# Altium footprint library HIGH AMP IGBT DRIVER.PcbLib: 48 footprints (part 1 of 3)
Each footprint in its own frame and in the unit in brackets; x right, y up, seen from the top. Pads: shape width x height; smd on the part's side, far side on the other; paste and mask are expansions set on the pad; w line width, h text height; cw(c..) or ccw(c..) is an arc to the next point about the centre after c.
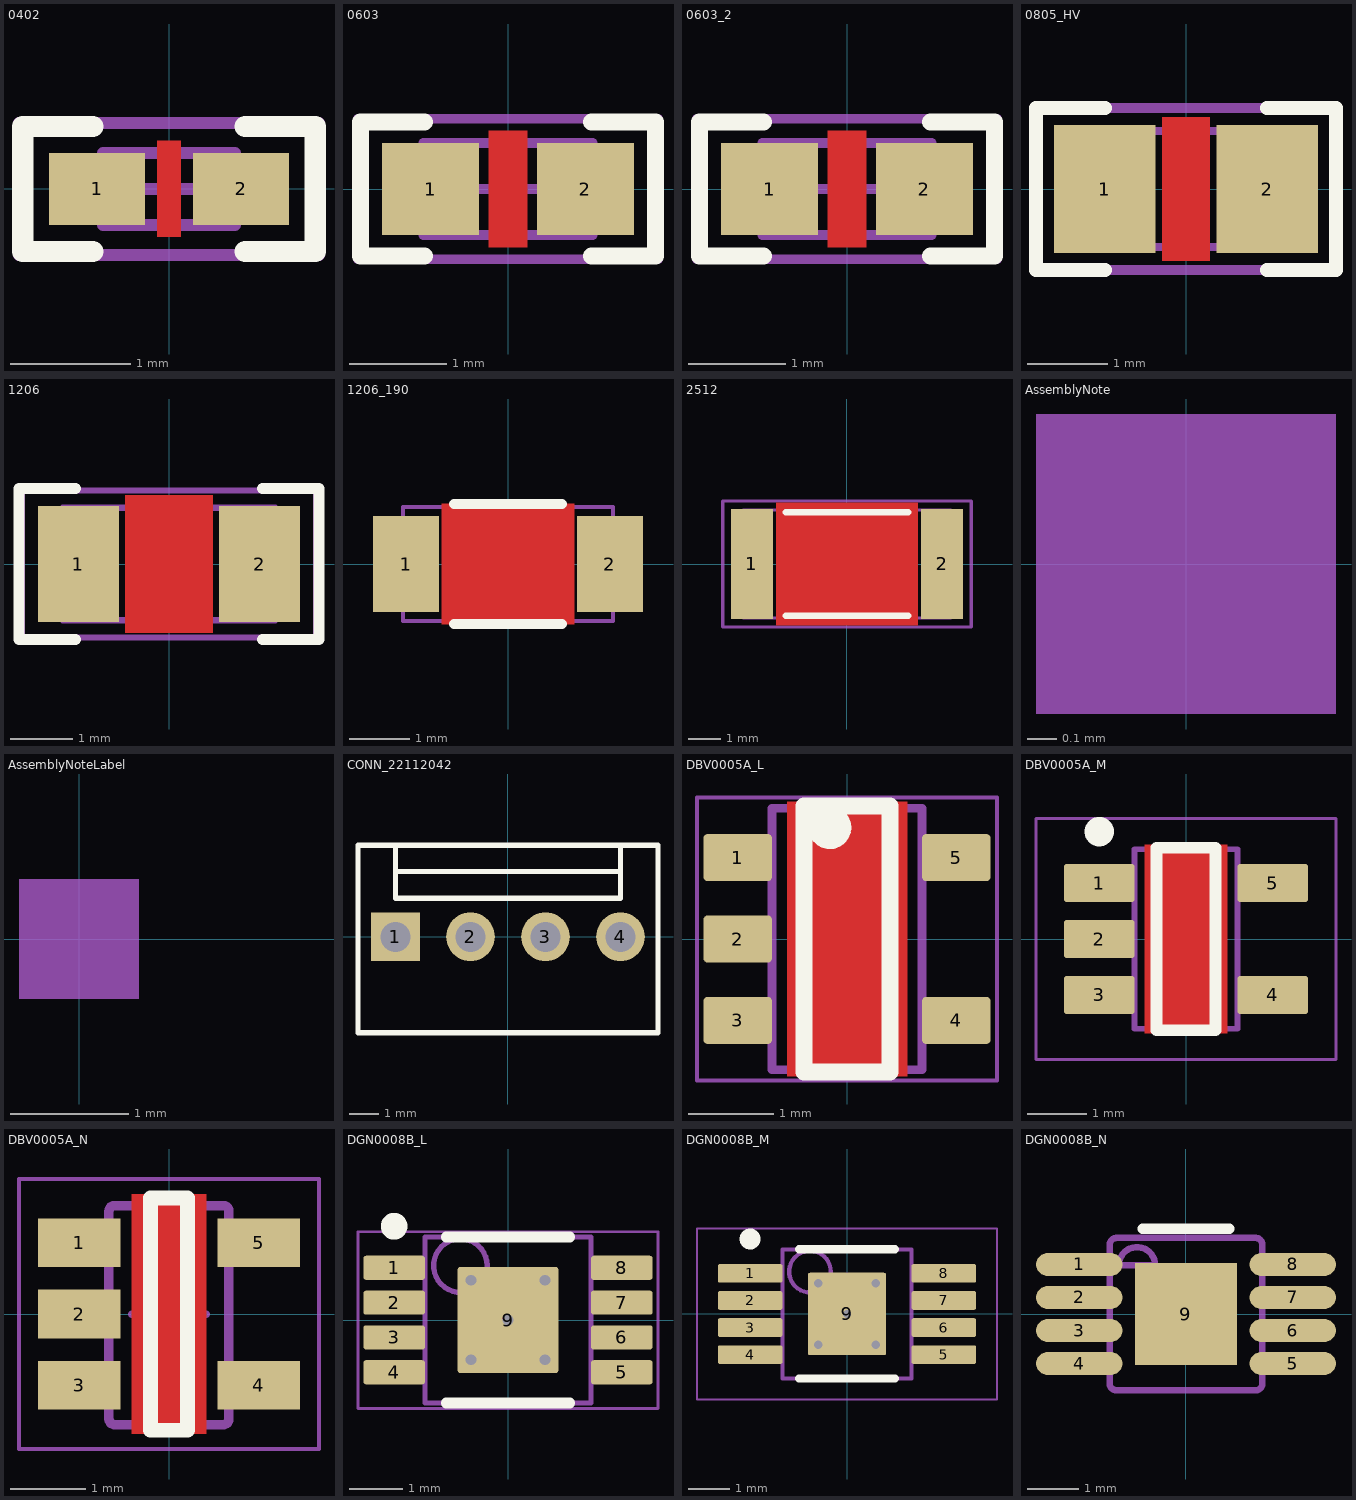
[diagram p0: the footprints below, top view; thin cyan lines are the x and y axes]

## 0402 [mm]
pads (2):
  rect 0.8x0.6 smd: 1(-0.6,0) 2(0.6,0)
Top Layer:
  pour cut-out: -0.1,0.4 0.1,0.4 0.1,-0.4 -0.1,-0.4
Top Overlay:
  lines w0.178: -0.635,-0.521 -1.219,-0.521 -1.219,0.521 -0.635,0.521 ; 0.635,-0.521 1.219,-0.521 1.219,0.521 0.635,0.521
Top 3D Body:
  lines w0.1: -0.35,-0.3 -0.35,0.3 ; 0.35,-0.3 0.35,0.3 ; -0.55,-0.3 0.55,-0.3 0.55,0.3 -0.55,0.3 -0.55,-0.3
Top Assembly:
  lines w0.1: -1.25,-0.55 -1.25,0.55 1.25,0.55 1.25,-0.55 -1.25,-0.55
  text ".Designator" at 0.94,0.381 h0.76
Top Courtyard:
  lines w0.1: -1.25,-0.55 1.25,-0.55 1.25,0.55 -1.25,0.55 -1.25,-0.55
Top Component Center:
  lines w0.1: -0.3,0 0.3,0 ; 0,-0.3 0,0.3
3D body: height 0.6, standoff 0, extent 0.351,-0.299 0.549,0.299
3D body: height 0.6, standoff 0, extent -0.349,-0.299 0.349,0.299
3D body: height 0.6, standoff 0, extent -0.549,-0.299 -0.351,0.299

## 0603 [mm]
pads (2):
  rect 1x0.95 smd: 1(-0.8,0) 2(0.8,0)
Top Layer:
  pour cut-out: -0.2,0.6 0.2,0.6 0.2,-0.6 -0.2,-0.6
Top Overlay:
  lines w0.178: -0.864,-0.691 -1.524,-0.691 -1.524,0.693 -0.864,0.693 ; 0.864,-0.691 1.524,-0.691 1.524,0.693 0.864,0.693
Top 3D Body:
  lines w0.1: -0.55,-0.475 -0.55,0.475 ; 0.55,-0.475 0.55,0.475 ; -0.875,-0.475 0.875,-0.475 0.875,0.475 -0.875,0.475 -0.875,-0.475
Top Assembly:
  lines w0.1: -1.55,-0.725 -1.55,0.725 1.55,0.725 1.55,-0.725 -1.55,-0.725
  text ".Designator" at -0.965,-0.406 h0.76
Top Courtyard:
  lines w0.1: -1.55,-0.725 1.55,-0.725 1.55,0.725 -1.55,0.725 -1.55,-0.725
Top Component Center:
  lines w0.1: -0.475,0 0.475,0 ; 0,-0.475 0,0.475
3D body: height 0.85, standoff 0, extent -0.874,-0.474 -0.551,0.474
3D body: height 0.85, standoff 0, extent -0.549,-0.474 0.549,0.474
3D body: height 0.85, standoff 0, extent 0.551,-0.474 0.874,0.474

## 0603_2 [mm]
pads (2):
  rect 1x0.95 smd: 1(-0.8,0) 2(0.8,0)
Top Layer:
  pour cut-out: -0.2,0.6 0.2,0.6 0.2,-0.6 -0.2,-0.6
Top Overlay:
  lines w0.178: -0.864,-0.691 -1.524,-0.691 -1.524,0.693 -0.864,0.693 ; 0.864,-0.691 1.524,-0.691 1.524,0.693 0.864,0.693
Top 3D Body:
  lines w0.1: -0.55,-0.475 -0.55,0.475 ; 0.55,-0.475 0.55,0.475 ; -0.875,-0.475 0.875,-0.475 0.875,0.475 -0.875,0.475 -0.875,-0.475
Top Assembly:
  lines w0.1: -1.55,-0.725 -1.55,0.725 1.55,0.725 1.55,-0.725 -1.55,-0.725
  text ".Designator" at -0.864,-0.406 h0.76
Top Courtyard:
  lines w0.1: -1.55,-0.725 1.55,-0.725 1.55,0.725 -1.55,0.725 -1.55,-0.725
Top Component Center:
  lines w0.1: -0.475,0 0.475,0 ; 0,-0.475 0,0.475
3D body: height 0.85, standoff 0, extent -0.874,-0.474 -0.551,0.474
3D body: height 0.85, standoff 0, extent -0.549,-0.474 0.549,0.474
3D body: height 0.85, standoff 0, extent 0.551,-0.474 0.874,0.474

## 0805_HV [mil]
pads (2):
  rect 50x63 smd: 1(-40,0) 2(40,0)
Top Layer:
  pour cut-out: -11.81,35.43 11.81,35.43 11.81,-35.43 -11.81,-35.43
Top Overlay:
  lines w7: -40,-40 -74,-40 -74,0 -74,40 -40,40 ; 40,-40 74,-40 74,0 74,40 40,40
Top 3D Body:
  lines w3.94: -25.59,-28.54 -25.59,28.54 ; 25.59,-28.54 25.59,28.54 ; -43.31,-28.54 43.31,-28.54 43.31,28.54 -43.31,28.54 -43.31,-28.54
  text ".Designator" at -48,-17 h30
Top Assembly:
  lines w5: -74,-40 -74,40 74,40 74,-40 -74,-40
3D body: height 43.31, standoff 0, extent -43.29,-28.52 -25.61,28.52
3D body: height 43.31, standoff 0, extent -25.57,-28.52 25.57,28.52
3D body: height 43.31, standoff 0, extent 25.61,-28.52 43.29,28.52

## 1206 [mm]
pads (2):
  rect 1.3x1.85 smd: 1(-1.45,0) 2(1.45,0)
Top Layer:
  pour cut-out: -0.7,1.1 0.7,1.1 0.7,-1.1 -0.7,-1.1
Top Overlay:
  lines w0.178: -1.5,-1.21 -2.4,-1.21 -2.4,1.21 -1.5,1.21 ; 1.5,-1.21 2.4,-1.21 2.4,1.21 1.5,1.21
Top 3D Body:
  lines w0.1: -1.2,-0.9 -1.2,0.9 ; 1.2,-0.9 1.2,0.9 ; -1.7,-0.9 -1.7,0.9 1.7,0.9 1.7,-0.9 -1.7,-0.9
Top Assembly:
  lines w0.1: -1.7,-0.9 -1.7,0.9 1.7,0.9 1.7,-0.9 -1.7,-0.9
  text ".Designator" at 1.118,0.508 h0.76
Top Courtyard:
  lines w0.1: -2.35,-1.175 -2.35,1.175 2.35,1.175 2.35,-1.175 -2.35,-1.175
Top Component Center:
  lines w0.1: -0.5,0 0.5,0 ; 0,-0.5 0,0.5
3D body: height 1.35, standoff 0, extent 1.201,-0.899 1.699,0.899
3D body: height 1.35, standoff 0, extent -1.199,-0.899 1.199,0.899
3D body: height 1.35, standoff 0, extent -1.699,-0.899 -1.201,0.899

## 1206_190 [mm]
pads (2):
  rect 1.1x1.6 smd: 1(-1.7,0) 2(1.7,0)
Top Layer:
  pour cut-out: -1.1,1 1.1,1 1.1,-1 -1.1,-1
Top Overlay:
  lines w0.17: -0.9,-1 0.9,-1 ; -0.9,1 0.9,1
Top Assembly:
  lines w0.07: -1.75,-0.95 -1.75,0.95 1.75,0.95 1.75,-0.95 -1.75,-0.95
  text ".Designator" at -1.346,-0.413 h0.76
3D body: height 1.9, standoff 0, extent 1.301,-0.949 1.749,0.949
3D body: height 1.9, standoff 0, extent -1.299,-0.949 1.299,0.949
3D body: height 1.9, standoff 0, extent -1.749,-0.949 -1.301,0.949

## 2512 [mm]
pads (2):
  rect 1.3x3.4 smd: 1(-2.95,0) 2(2.95,0)
Top Layer:
  pour cut-out: -2.2,1.9 2.2,1.9 2.2,-1.9 -2.2,-1.9
Top Overlay:
  lines w0.2: -1.9,-1.6 1.9,-1.6 ; -1.9,1.6 1.9,1.6
Top 3D Body:
  lines w0.1: -2.463,-1.675 -2.463,1.675 ; 2.463,-1.675 2.463,1.675 ; -3.225,-1.675 -3.225,1.675 3.225,1.675 3.225,-1.675 -3.225,-1.675
Top Assembly:
  lines w0.1: -3.225,-1.675 -3.225,1.675 3.225,1.675 3.225,-1.675 -3.225,-1.675
  text ".Designator" at -1.85,-0.5 h0.76
Top Courtyard:
  lines w0.1: -3.85,-1.95 -3.85,1.95 3.85,1.95 3.85,-1.95 -3.85,-1.95
Top Component Center:
  lines w0.1: -0.5,0 0.5,0 ; 0,-0.5 0,0.5
3D body: height 0.71, standoff 0, extent 2.464,-1.674 3.224,1.674
3D body: height 0.71, standoff 0, extent -2.462,-1.674 2.462,1.674
3D body: height 0.71, standoff 0, extent -3.224,-1.674 -2.464,1.674

## AssemblyNote [mm]
Top Overlay:
  text ".Comment" at 1.143,-0.508 h0.89
Top Assembly:
  rectangle: -0.508,-0.508 0.508,0.508
  text ".Designator" at -4.191,-0.508 h0.76

## AssemblyNoteLabel [mm]
Top Overlay:
  text "Install label in silkscreened box after final wash.  Text shall be 8 pt font.  Text shall be per the Label Table in the PDF schematic." at 1.143,-0.508 h0.89
Top Assembly:
  rectangle: -0.508,-0.508 0.508,0.508
  text ".Designator" at -4.191,-0.508 h0.76

## CONN_22112042 [mm]
pads (4):
  rect 1.65x1.65 hole 1.016: 1(-3.81,0)
  round 1.65 hole 1.016: 2(-1.27,0) 3(1.27,0) 4(3.81,0)
Top Overlay:
  lines w0.178: -3.81,2.21 -3.81,3.099 ; -3.81,2.21 -3.81,1.308 3.81,1.308 3.81,2.21 ; -3.81,2.21 3.81,2.21 ; -3.81,3.099 3.81,3.099 ; -3.81,3.099 -5.08,3.099 -5.08,-3.251 5.08,-3.251 5.08,3.099 3.81,3.099 ; 3.81,2.21 3.81,3.099
Top Assembly:
  lines w0.127: -3.81,2.21 3.81,2.21 ; -3.81,2.21 -3.81,1.308 3.81,1.308 3.81,2.21 ; -3.81,2.21 -3.81,3.099 ; -3.81,3.099 -5.08,3.099 -5.08,-3.251 5.08,-3.251 5.08,3.099 3.81,3.099 ; -3.81,3.099 3.81,3.099 ; 3.81,2.21 3.81,3.099
  text ".Designator" at 0.528,-0.883 h0.76
3D body "Molex_22-11-2042.stp": height 10.68, standoff -3.54, extent -5.004,-3.251 5.004,3.099

## DBV0005A_L [mm] "SOT23, 5-Leads, Body 3.05x1.75mm, Pitch 0.95mm, IPC High Density"
height 1.45
pads (5):
  rrect18% 0.8x0.55 smd: 1(-1.275,0.95) 2(-1.275,0) 3(-1.275,-0.95) 4(1.275,-0.95) 5(1.275,0.95)
Top Layer:
  pour cut-out: -0.7,1.6 0.7,1.6 0.7,-1.6 -0.7,-1.6
Top Overlay:
  circle w0.25: c-0.2,1.3 r0.125
  lines w0.2: -0.5,-1.55 -0.5,1.55 0.5,1.55 0.5,-1.55 -0.5,-1.55
Top Assembly:
  text ".Designator" at -0.635,-0.254 h0.4
Mechanical 13:
  lines w0.1: -0.875,-1.525 0.875,-1.525 0.875,1.525 -0.875,1.525 -0.875,-1.525
Mechanical 15:
  lines w0.05: -1.75,-1.65 1.75,-1.65 1.75,1.65 -1.75,1.65 -1.75,-1.65
  lines w0.1: -0.5,0 0.5,0 ; 0,-0.5 0,0.5
3D body "DBV0005AaksMF05A.stp": height 1.08, standoff -0.01, extent -1.422,-1.461 1.422,1.46

## DBV0005A_M [mm] "SOT23, 5-Leads, Body 3.05x1.75mm, Pitch 0.95mm, IPC Low Density"
height 1.45
pads (5):
  rrect15% 1.2x0.65 smd: 1(-1.475,0.95) 2(-1.475,0) 3(-1.475,-0.95) 4(1.475,-0.95) 5(1.475,0.95)
Top Layer:
  pour cut-out: -0.7,1.6 0.7,1.6 0.7,-1.6 -0.7,-1.6
Top Overlay:
  circle w0.25: c-1.475,1.825 r0.125
  lines w0.2: -0.5,-1.55 -0.5,1.55 0.5,1.55 0.5,-1.55 -0.5,-1.55
Top Assembly:
  text ".Designator" at -0.635,-0.127 h0.4
Mechanical 13:
  lines w0.1: -0.875,-1.525 0.875,-1.525 0.875,1.525 -0.875,1.525 -0.875,-1.525
Mechanical 15:
  lines w0.05: -2.55,-2.05 2.55,-2.05 2.55,2.05 -2.55,2.05 -2.55,-2.05
  lines w0.1: -0.5,0 0.5,0 ; 0,-0.5 0,0.5
3D body "DBV0005AaksMF05A.stp": height 1.08, standoff -0.01, extent -1.422,-1.461 1.422,1.46

## DBV0005A_N [mm]
pads (5):
  rect 1.1x0.65 smd: 1(-1.2,0.95) 2(-1.2,0) 3(-1.2,-0.95) 4(1.2,-0.95) 5(1.2,0.95)
Top Layer:
  pour cut-out: -0.5,1.6 0.5,1.6 0.5,-1.6 -0.5,-1.6
Top Overlay:
  lines w0.2: -0.25,-1.55 -0.25,1.55 0.25,1.55 0.25,-1.55 -0.25,-1.55
Top Assembly:
  lines w0.127: -0.801,1.371 cw(c-0.725,1.37) -0.725,1.446 ; -0.801,1.37 -0.801,1.371 ; -0.801,1.37 -0.801,-1.399 -0.801,-1.4 ccw(c-0.725,-1.399) -0.725,-1.475 ; -0.725,-1.475 -0.725,-1.475 ; -0.725,-1.475 0.723,-1.475 0.724,-1.475 ccw(c0.723,-1.399) 0.799,-1.4 0.799,-1.399 0.799,1.37 ; -0.725,1.446 0.723,1.446 0.724,1.446 cw(c0.723,1.37) 0.799,1.371 ; -0.725,1.446 -0.725,1.446 ; 0.799,1.37 0.799,1.371 ; -1.423,-1.167 -1.423,-0.767 -1.199,-0.767 -1.105,-0.767 -1.088,-0.767 -0.835,-0.767 -0.801,-0.767 -0.801,-1.167 -0.835,-1.167 -1.088,-1.167 -1.105,-1.167 -1.199,-1.167 -1.423,-1.167 ; -1.423,-0.215 -1.423,0.186 -1.199,0.186 -1.105,0.186 -1.088,0.186 -0.835,0.186 -0.801,0.186 -0.801,-0.215 -0.835,-0.215 -1.088,-0.215 -1.105,-0.215 -1.199,-0.215 -1.423,-0.215 ; -1.423,0.738 -1.199,0.738 -1.105,0.738 -1.088,0.738 -0.835,0.738 -0.801,0.738 -0.801,1.138 -0.835,1.138 -1.088,1.138 -1.105,1.138 -1.199,1.138 -1.423,1.138 -1.423,0.738 ; 0.799,-1.167 0.799,-0.767 0.834,-0.767 1.087,-0.767 1.103,-0.767 1.198,-0.767 1.422,-0.767 1.422,-1.167 1.198,-1.167 1.103,-1.167 1.087,-1.167 0.834,-1.167 0.799,-1.167 ; 0.799,0.738 0.834,0.738 1.087,0.738 1.103,0.738 1.198,0.738 1.422,0.738 1.422,1.138 1.198,1.138 1.103,1.138 1.087,1.138 0.834,1.138 0.799,1.138 0.799,0.738
  text ".Designator" at 0.432,-1.067 h0.76
Top Courtyard:
  lines w0.05: -2,-1.8 2,-1.8 2,1.8 -2,1.8 -2,-1.8
Top Component Center:
  lines w0.1: -0.5,0 0.5,0 ; 0,-0.5 0,0.5
3D body "DBV0005AaksMF05A.stp": height 1.08, standoff -0.01, extent -1.422,-1.461 1.422,1.46

## DGN0008B_L [mm] "TSOP, 8-Leads, Body 3.1x3.1mm, Pitch 0.65mm, Thermal Pad 1.98x1.88mm, IPC High Density"
height 1.1
pads (9):
  rrect22% 1.15x0.45 smd: 1(-2.125,0.975) 2(-2.125,0.325) 3(-2.125,-0.325) 4(-2.125,-0.975) 5(2.125,-0.975) 6(2.125,-0.325) 7(2.125,0.325) 8(2.125,0.975)
  rrect5% 1.88x1.98 smd: 9(0,0)
via 0,0 diameter 0.5 hole 0.2
via 0.69,-0.74 diameter 0.5 hole 0.2
via -0.69,-0.74 diameter 0.5 hole 0.2
via 0.69,0.74 diameter 0.5 hole 0.2
via -0.69,0.74 diameter 0.5 hole 0.2
Top Overlay:
  circle w0.25: c-2.125,1.75 r0.125
  lines w0.2: -1.15,-1.55 1.15,-1.55 ; -1.15,1.55 1.15,1.55
Mechanical 1:
  text ".Designator" at -1.397,-0.254 h0.7
Mechanical 13:
  circle w0.1: c-0.889,1.016 r0.5
  lines w0.1: -1.55,-1.55 -1.55,1.55 1.55,1.55 1.55,-1.55 -1.55,-1.55
Mechanical 15:
  lines w0.05: -2.8,-1.65 -2.8,1.65 2.8,1.65 2.8,-1.65 -2.8,-1.65
  lines w0.1: -0.5,0 0.5,0 ; 0,-0.5 0,0.5
3D body "MUY08A_ASM.stp": height 0.94, standoff -0.02, extent -2.451,-1.499 2.451,1.499

## DGN0008B_M [mm] "TSOP, 8-Leads, Body 3.1x3.1mm, Pitch 0.65mm, Thermal Pad 1.9x1.88mm, IPC Low Density"
height 1.1
pads (9):
  rrect22% 1.55x0.45 smd: 1(-2.325,0.975) 2(-2.325,0.325) 3(-2.325,-0.325) 4(-2.325,-0.975) 5(2.325,-0.975) 6(2.325,-0.325) 7(2.325,0.325) 8(2.325,0.975)
  rrect5% 1.88x1.98 smd: 9(0,0)
via 0,0 diameter 0.5 hole 0.2
via 0.69,-0.74 diameter 0.5 hole 0.2
via -0.69,-0.74 diameter 0.5 hole 0.2
via 0.69,0.74 diameter 0.5 hole 0.2
via -0.69,0.74 diameter 0.5 hole 0.2
Top Overlay:
  circle w0.25: c-2.325,1.8 r0.125
  lines w0.2: -1.15,-1.55 1.15,-1.55 ; -1.15,1.55 1.15,1.55
Mechanical 1:
  text ".Designator" at -1.397,-0.254 h0.7
Mechanical 13:
  circle w0.1: c-0.889,1.016 r0.5
  lines w0.1: -1.55,-1.55 -1.55,1.55 1.55,1.55 1.55,-1.55 -1.55,-1.55
Mechanical 15:
  lines w0.05: -3.6,-2.05 -3.6,2.05 3.6,2.05 3.6,-2.05 -3.6,-2.05
  lines w0.1: -0.5,0 0.5,0 ; 0,-0.5 0,0.5
3D body "MUY08A_ASM.stp": height 0.94, standoff -0.02, extent -2.451,-1.499 2.451,1.499

## DGN0008B_N [mm]
pads (9):
  oval 1.7x0.45 smd mask+0.05: 1(-2.1,0.975) 2(-2.1,0.325) 3(-2.1,-0.325) 4(-2.1,-0.975) 5(2.1,-0.975) 6(2.1,-0.325) 7(2.1,0.325) 8(2.1,0.975)
  rect 2x2 smd: 9(0,0)
Top Overlay:
  lines w0.2: -0.85,1.675 0.85,1.675
Top Assembly:
  lines w0.127: -2.45,-1.131 -2.45,-0.826 -2.21,-0.826 -2.09,-0.826 -2.087,-0.826 -1.784,-0.826 -1.498,-0.826 -1.498,-1.131 -1.784,-1.131 -2.087,-1.131 -2.09,-1.131 -2.21,-1.131 -2.45,-1.131 ; -2.45,-0.48 -2.45,-0.175 -2.21,-0.175 -2.09,-0.175 -2.087,-0.175 -1.784,-0.175 -1.498,-0.175 -1.498,-0.48 -1.784,-0.48 -2.087,-0.48 -2.09,-0.48 -2.21,-0.48 -2.45,-0.48 ; -2.45,0.17 -2.45,0.475 -2.21,0.475 -2.09,0.475 -2.087,0.475 -1.784,0.475 -1.498,0.475 -1.498,0.17 -1.784,0.17 -2.087,0.17 -2.09,0.17 -2.21,0.17 -2.45,0.17 ; -2.45,0.82 -2.45,1.125 -2.21,1.125 -2.09,1.125 -2.087,1.125 -1.784,1.125 -1.498,1.125 -1.498,0.82 -1.784,0.82 -2.087,0.82 -2.09,0.82 -2.21,0.82 -2.45,0.82 ; -1.497,-1.377 ccw(c-1.37,-1.374) -1.373,-1.501 -1.371,-1.501 1.373,-1.501 1.375,-1.501 ccw(c1.373,-1.374) 1.5,-1.377 1.5,-1.374 1.5,1.369 1.5,1.372 ccw(c1.373,1.369) 1.375,1.496 1.373,1.496 -1.371,1.496 -1.373,1.496 ccw(c-1.37,1.369) -1.497,1.372 -1.498,1.369 -1.498,-1.374 -1.497,-1.377 ; -1.32,0.962 cw(c-0.964,0.962) -0.609,0.962 -1.32,0.962 ; 1.5,-1.131 1.5,-0.826 1.786,-0.826 2.089,-0.826 2.093,-0.826 2.213,-0.826 2.452,-0.826 2.452,-1.131 2.213,-1.131 2.093,-1.131 2.089,-1.131 1.786,-1.131 1.5,-1.131 ; 1.5,-0.48 1.5,-0.175 1.786,-0.175 2.089,-0.175 2.093,-0.175 2.213,-0.175 2.452,-0.175 2.452,-0.48 2.213,-0.48 2.093,-0.48 2.089,-0.48 1.786,-0.48 1.5,-0.48 ; 1.5,0.17 1.5,0.475 1.786,0.475 2.089,0.475 2.093,0.475 2.213,0.475 2.452,0.475 2.452,0.17 2.213,0.17 2.093,0.17 2.089,0.17 1.786,0.17 1.5,0.17 ; 1.5,0.82 1.5,1.125 1.786,1.125 2.089,1.125 2.093,1.125 2.213,1.125 2.452,1.125 2.452,0.82 2.213,0.82 2.093,0.82 2.089,0.82 1.786,0.82 1.5,0.82
  text ".Designator" at 0.806,0.533 h0.76
Top Component Center:
  lines w0.1: -0.5,0 0.5,0 ; 0,-0.5 0,0.5
3D body "MUY08A_ASM.stp": height 0.94, standoff -0.02, extent -2.451,-1.499 2.451,1.498